# Altium footprint library MyDiode.PcbLib: 2 footprints
Each footprint in its own frame and in the unit in brackets; x right, y up, seen from the top. Pads: shape width x height; smd on the part's side, far side on the other; paste and mask are expansions set on the pad; w line width, h text height; cw(c..) or ccw(c..) is an arc to the next point about the centre after c.
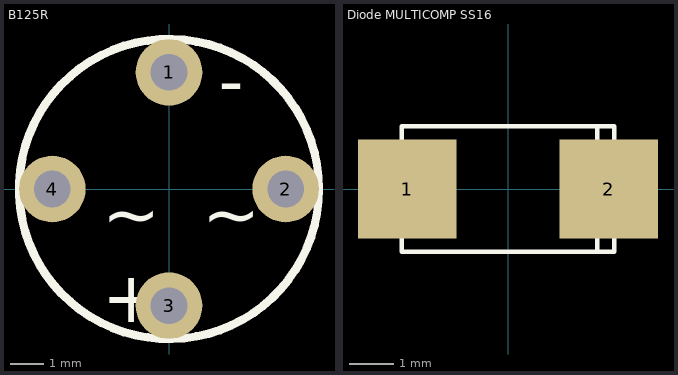
[diagram p0: the footprints below, top view; thin cyan lines are the x and y axes]

## B125R [mm] "Traversant Rond2A"
height 5.1
pads (4):
  round 2 hole 1.1: 1(0,3.5) 2(3.5,0) 3(0,-3.5) 4(-3.5,0)
Top Overlay:
  circle w0.254: c0,0 r4.5
  text "~" at 1,-1.5 h1.52
  text "~" at -2,-1.5 h1.52
  text "+" at -2,-4 h1.52
  text "-" at 1.5,2.5 h1.52

## Diode MULTICOMP SS16 [mm]
height 2.61
pads (2):
  rect 2.2x2.21 smd: 1(-2.25,0) 2(2.25,0)
Top Overlay:
  lines w0.1: 2,-1.4 2,1.4 ; -2.375,-1.4 -2.375,1.4 2.375,1.4 2.375,-1.4 -2.375,-1.4